# EAGLE library part CX90M-16P-USB-C-MIDMOUNT (library MTM_untested)
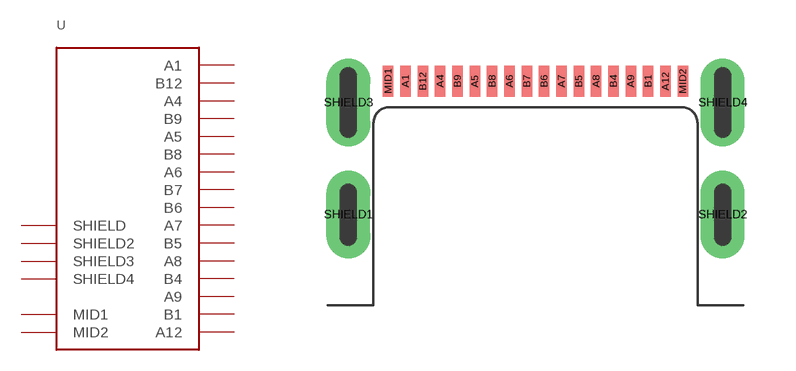
[diagram p10: symbol with the pads of CX90M-16P-USB-C-MIDMOUNT; footprint CX90M-16P-USB-C-MIDMOUNT]

Designator prefix -

## CX90M-16P-USB-C-MIDMOUNTMID  [CX90M-16P-USB-C-MIDMOUNT]
A1  A1
A4  A4
A5  A5
A6  A6
A7  A7
A8  A8
A9  A9
A12  A12
B1  B1
B4  B4
B5  B5
B6  B6
B7  B7
B8  B8
B9  B9
B12  B12
MID1  MID1
MID2  MID2
SHIELD1  SHIELD
SHIELD2  SHIELD2
SHIELD3  SHIELD3
SHIELD4  SHIELD4

## Footprint CX90M-16P-USB-C-MIDMOUNT (pad centres in mm)
smd 0.3 x 0.9: A1 -3.75,3.85; A4 -2.75,3.85; A5 -1.75,3.85; A6 -0.75,3.85; A7 0.75,3.85; A8 1.75,3.85; A9 2.75,3.85; A12 3.75,3.85; B1 3.25,3.85; B4 2.25,3.85; B5 1.25,3.85; B6 0.25,3.85; B7 -0.25,3.85; B8 -1.25,3.85; B9 -2.25,3.85; B12 -3.25,3.85; MID1 -4.25,3.85; MID2 4.25,3.85
drill 0.5 pad 1.27 long: SHIELD1 -5.4,0; SHIELD2 5.4,0; SHIELD3 -5.4,3.23; SHIELD4 5.4,3.23